# EAGLE library part 52610-1071 (library Molex_By_element14_Batch_1)
SOCKET FFC/FPC, ZIF, 1MM, 10WAY
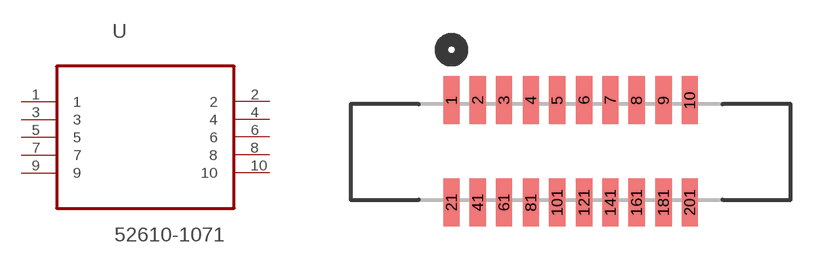
[diagram p17: symbol with the pads of MOLEX_52610-1071; footprint MOLEX_52610-1071]

Designator prefix U

## 52610-1071 (MPN: 52610-1071; OC_FARNELL: 9786236; OC_NEWARK: 98K9782; PACKAGE: SOCKET FFC/FPC, ZIF, 1MM, 10WAY; SUPPLIER: Molex)  [MOLEX_52610-1071]
1  1  pas
2  2  pas
3  3  pas
4  4  pas
5  5  pas
6  6  pas
7  7  pas
8  8  pas
9  9  pas
10  10  pas

## Footprint MOLEX_52610-1071 (pad centres in mm)
smd 0.61 x 1.803: 1 -8.992,3.861; 2 -8.001,3.861; 3 -7.01,3.861; 4 -5.994,3.861; 5 -5.004,3.861; 6 -3.988,3.861; 7 -2.997,3.861; 8 -2.007,3.861; 9 -0.991,3.861; 10 0,3.861; 21 -8.992,0; 41 -8.001,0; 61 -7.01,0; 81 -5.994,0; 101 -5.004,0; 121 -3.988,0; 141 -2.997,0; 161 -2.007,0; 181 -0.991,0; 201 0,0